# Altium schematic symbol library DC_POWER_JACK-2.SchLib: 1 symbol
Pins are listed as number, name and electrical type; pins without a type are passive.

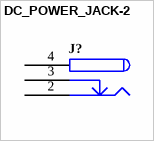
[diagram p0: symbol DC_POWER_JACK-2]

## DC_POWER_JACK-2
designator J?
pins: 2 (power), 3 (power), 4 (power)